# EAGLE library part DIP03YL (library 1A-meinLib)
DIL/CODE SWITCH
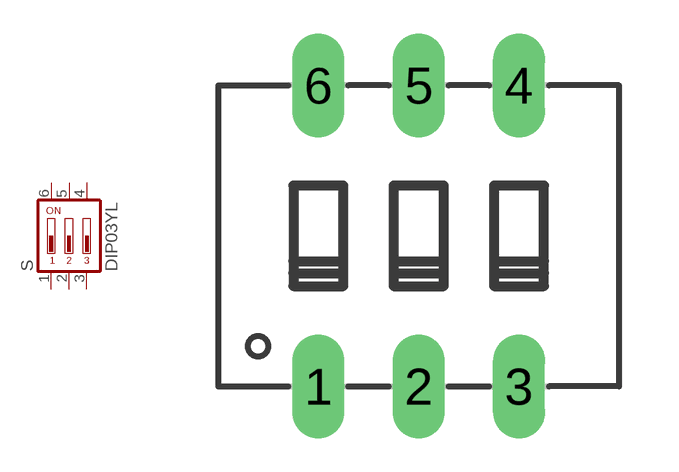
[diagram p239: symbol with the pads of DIP03YL; footprint DIP03YL]

Designator prefix S

## DIP03YL  [DIP03YL]
1  1  pas
2  2  pas
3  3  pas
4  4  pas
5  5  pas
6  6  pas

## Footprint DIP03YL (pad centres in mm)
DIL/CODE SWITCH
drill 0.813 long: 1 -2.54,-3.81; 2 0,-3.81; 3 2.54,-3.81; 4 2.54,3.81; 5 0,3.81; 6 -2.54,3.81